# Altium integrated library RFX2401C.IntLib: 1 symbol
Pins are listed as number, name and electrical type; pins without a type are passive.

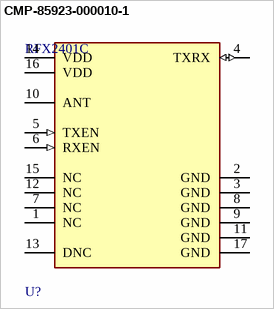
[diagram p0: symbol CMP-85923-000010-1]

## CMP-85923-000010-1
designator U?, comment RFX2401C
IC FRONT END WLAN/ZIGBEE 16QFN; Frequency: 2.5GHz; Series: -; Packaging: Cut Tape; Case/Package: QFN; RoHS Compliant: Yes
footprint FP-RFX2401C-MFG
pins: 1 NC, 2 GND (power), 3 GND (power), 4 TXRX (io), 5 TXEN (in), 6 RXEN (in), 7 NC, 8 GND (power), 9 GND (power), 10 ANT, 11 GND (power), 12 NC, 13 DNC, 14 VDD (power), 15 NC, 16 VDD (power), 17 GND (power)